# Altium footprint library SOT95P240X111-3N.PcbLib: 1 footprints
Each footprint in its own frame and in the unit in brackets; x right, y up, seen from the top. Pads: shape width x height; smd on the part's side, far side on the other; paste and mask are expansions set on the pad; w line width, h text height; cw(c..) or ccw(c..) is an arc to the next point about the centre after c.
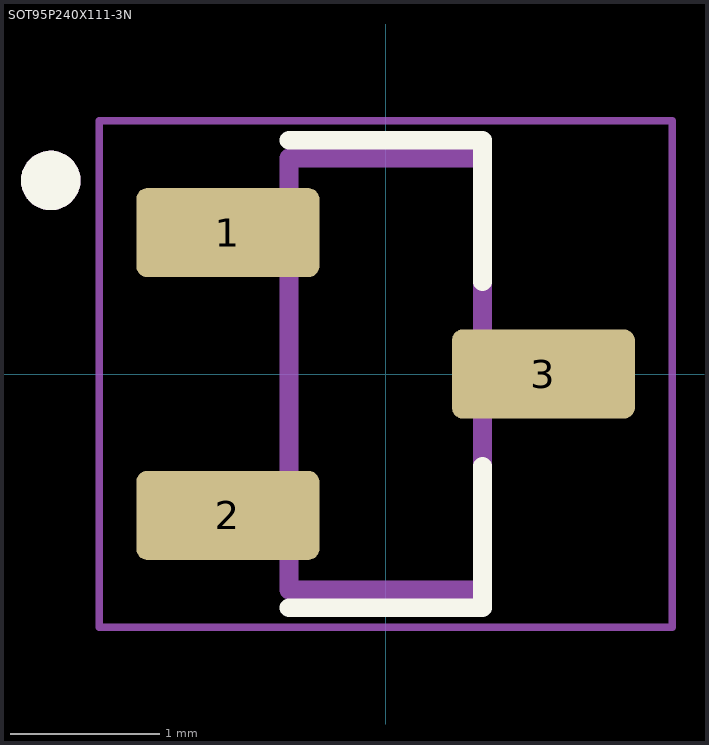
[diagram p0: the footprint, top view; thin cyan lines are the x and y axes]

## SOT95P240X111-3N [mm]
pads (3):
  rrect25% 1.23x0.6 smd: 1(-1.06,0.95) 2(-1.06,-0.95) 3(1.06,0)
Top Overlay:
  circle w0.2: c-2.25,1.3 r0.1
  lines w0.127: -0.65,-1.57 0.65,-1.57 0.65,-0.62 ; -0.65,1.57 0.65,1.57 0.65,0.62
Mechanical 13:
  circle w0.2: c-2.25,1.3 r0.1
  lines w0.127: -0.65,-1.45 -0.65,1.45 0.65,1.45 0.65,-1.45 -0.65,-1.45
Mechanical 15:
  lines w0.05: -1.925,-1.7 1.925,-1.7 1.925,1.7 -1.925,1.7 -1.925,-1.7